# Altium schematic symbol library DDS.SchLib: 1 symbol
Pins are listed as number, name and electrical type; pins without a type are passive.

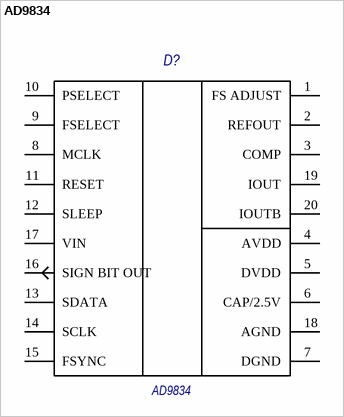
[diagram p0: symbol AD9834]

## AD9834
designator D?  Type: AD9834  (hidden comment: *)
Digital Direct Synthesizer
footprint TSSOP20
pins: 1 FS ADJUST, 2 REFOUT, 3 COMP, 4 AVDD, 5 DVDD, 6 CAP/2.5V, 7 DGND, 8 MCLK, 9 FSELECT, 10 PSELECT, 11 RESET, 12 SLEEP, 13 SDATA, 14 SCLK, 15 FSYNC, 16 SIGN BIT OUT, 17 VIN, 18 AGND, 19 IOUT, 20 IOUTB